# Altium footprint library SOIC_16_ST.PcbLib: 3 footprints
Each footprint in its own frame and in the unit in brackets; x right, y up, seen from the top. Pads: shape width x height; smd on the part's side, far side on the other; paste and mask are expansions set on the pad; w line width, h text height; cw(c..) or ccw(c..) is an arc to the next point about the centre after c.
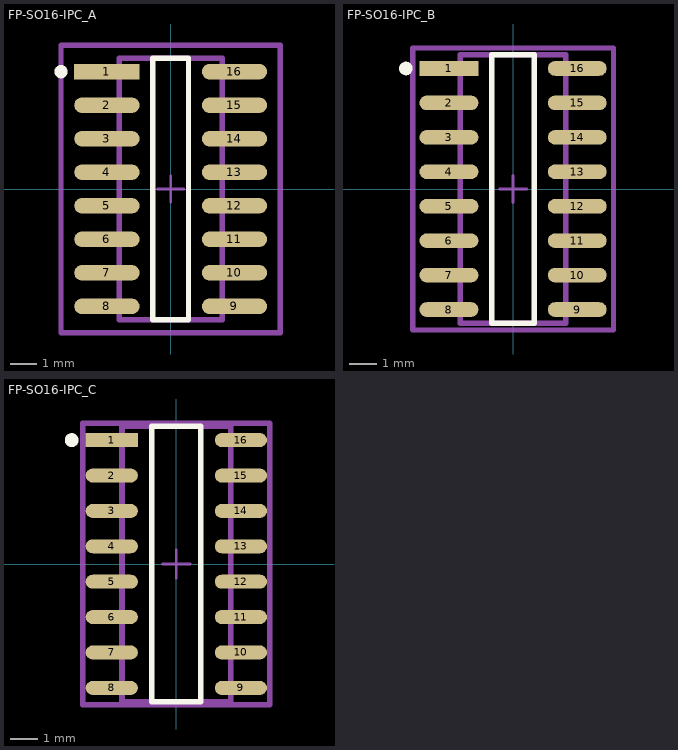
[diagram p0: the footprints below, top view; thin cyan lines are the x and y axes]

## FP-SO16-IPC_A [mil]
pads (16):
  rect 97.4x22.86 smd paste+0 mask+0: 1(-95.12,175)
  rrect100% 97.4x22.86 smd paste+0 mask+0: 2(-95.12,125) 3(-95.12,75) 4(-95.12,25) 5(-95.12,-25) 6(-95.12,-75) 7(-95.12,-125) 8(-95.12,-175) 9(95.12,-175) 10(95.12,-125) 11(95.12,-75) 12(95.12,-25) 13(95.12,25) 14(95.12,75) 15(95.12,125) 16(95.12,175)
Top Overlay:
  circle w9.84: c-163.51,175 r4.92
  lines w7.87: -26.73,-194.88 26.73,-194.88 26.73,194.88 -26.73,194.88 -26.73,-194.88
Top Assembly:
  lines w7.87: -163.51,-214.57 163.51,-214.57 163.51,214.57 -163.51,214.57 -163.51,-214.57
  text ".Designator" at 0,7.39 h39.37
Top 3D Body:
  lines w7.87: -76.77,-194.88 76.77,-194.88 76.77,194.88 -76.77,194.88 -76.77,-194.88
Top Courtyard:
  lines w7.87: -163.51,-214.57 163.51,-214.57 163.51,214.57 -163.51,214.57 -163.51,-214.57
Top Component Center:
  lines w3.94: -19.68,0 19.68,0 ; 0,-19.68 0,19.68
3D body "IC_STMicroelectronics_SG3525AP_eec.STEP": height 10, standoff 0, extent -163.51,-214.57 163.51,214.57

## FP-SO16-IPC_B [mil]
pads (16):
  rect 85.59x21.29 smd paste+0 mask+0: 1(-93.15,175)
  rrect100% 85.59x21.29 smd paste+0 mask+0: 2(-93.15,125) 3(-93.15,75) 4(-93.15,25) 5(-93.15,-25) 6(-93.15,-75) 7(-93.15,-125) 8(-93.15,-175) 9(93.15,-175) 10(93.15,-125) 11(93.15,-75) 12(93.15,-25) 13(93.15,25) 14(93.15,75) 15(93.15,125) 16(93.15,175)
Top Overlay:
  circle w9.84: c-155.63,175 r4.92
  lines w7.87: -30.67,-194.88 -30.67,194.88 30.67,194.88 30.67,-194.88 -30.67,-194.88
Top Assembly:
  lines w7.87: -145.79,-204.72 -145.79,204.72 145.79,204.72 145.79,-204.72 -145.79,-204.72
  text ".Designator" at 0,7.39 h39.37
Top 3D Body:
  lines w7.87: -76.77,-194.88 -76.77,194.88 76.77,194.88 76.77,-194.88 -76.77,-194.88
Top Courtyard:
  lines w7.87: -145.79,-204.72 -145.79,204.72 145.79,204.72 145.79,-204.72 -145.79,-204.72
Top Component Center:
  lines w3.94: -19.68,0 19.68,0 ; 0,-19.68 0,19.68
3D body "IC_STMicroelectronics_SG3525AP_eec.STEP": height 10, standoff 0, extent -145.79,-204.72 145.79,204.72

## FP-SO16-IPC_C [mil]
pads (16):
  rect 73.78x19.72 smd paste+0 mask+0: 1(-91.18,175)
  rrect100% 73.78x19.72 smd paste+0 mask+0: 2(-91.18,125) 3(-91.18,75) 4(-91.18,25) 5(-91.18,-25) 6(-91.18,-75) 7(-91.18,-125) 8(-91.18,-175) 9(91.18,-175) 10(91.18,-125) 11(91.18,-75) 12(91.18,-25) 13(91.18,25) 14(91.18,75) 15(91.18,125) 16(91.18,175)
Top Overlay:
  circle w9.84: c-147.76,175 r4.92
  lines w7.87: -34.61,-194.88 -34.61,194.88 34.61,194.88 34.61,-194.88 -34.61,-194.88
Top Assembly:
  lines w7.87: -132.01,-198.82 -132.01,198.82 132.01,198.82 132.01,-198.82 -132.01,-198.82
  text ".Designator" at 0,7.39 h39.37
Top 3D Body:
  lines w7.87: -76.77,-194.88 -76.77,194.88 76.77,194.88 76.77,-194.88 -76.77,-194.88
Top Courtyard:
  lines w7.87: -132.01,-198.82 -132.01,198.82 132.01,198.82 132.01,-198.82 -132.01,-198.82
Top Component Center:
  lines w3.94: -19.68,0 19.68,0 ; 0,-19.68 0,19.68
3D body "IC_STMicroelectronics_SG3525AP_eec.STEP": height 10, standoff 0, extent -132.01,-198.82 132.01,198.82